# Altium footprint library Semiconductors.PcbLib: 4 footprints
Each footprint in its own frame and in the unit in brackets; x right, y up, seen from the top. Pads: shape width x height; smd on the part's side, far side on the other; paste and mask are expansions set on the pad; w line width, h text height; cw(c..) or ccw(c..) is an arc to the next point about the centre after c.
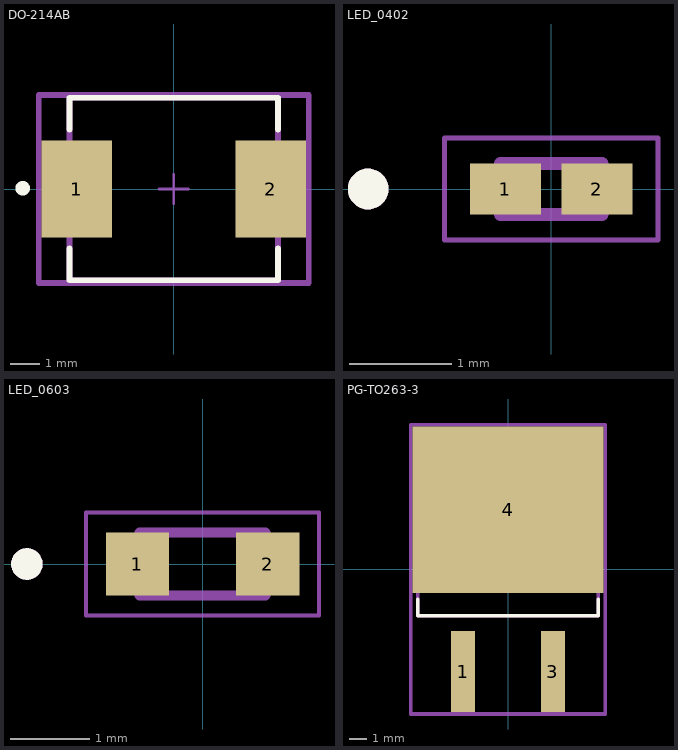
[diagram p0: the footprints below, top view; thin cyan lines are the x and y axes]

## DO-214AB [mm] "DO-214AB / SMC"
pads (2):
  rect 2.4x3.3 smd paste+0 mask+0: 1(-3.3,0) 2(3.3,0)
Top Overlay:
  circle w0.25: c-5.15,0.025 r0.125
  lines w0.2: -3.555,-2.025 -3.555,-3.11 3.555,-3.11 3.555,-2.025 ; -3.555,2.025 -3.555,3.11 3.555,3.11 3.555,2.025
Top 3D Body:
  lines w0.2: -3.555,-3.11 -3.555,3.11 3.555,3.11 3.555,-3.11 -3.555,-3.11
Top Courtyard:
  lines w0.2: -4.6,-3.21 -4.6,3.21 4.6,3.21 4.6,-3.21 -4.6,-3.21
Top Assembly:
  lines w0.2: -4.6,-3.21 -4.6,3.21 4.6,3.21 4.6,-3.21 -4.6,-3.21
  text ".Designator" at 0,0.188 h1
Top Component Center:
  lines w0.1: -0.5,0 0.5,0 ; 0,-0.5 0,0.5
3D body "Diode_Littelfuse_Inc_5_0SMDJ28A_eec.STEP": height 0.25, standoff 0, extent -4.6,-3.21 4.6,3.21

## LED_0402 [mm]
height 0.25
pads (2):
  rect 0.7x0.5 smd mask+0.05: 1(-0.45,0) 2(0.45,0)
Top Overlay:
  circle w0.2: c-1.8,0 r0.1
Mechanical 13:
  circle w0.2: c-1.8,0 r0.1
  lines w0.127: -0.5,-0.25 0.5,-0.25 0.5,0.25 -0.5,0.25 -0.5,-0.25
Mechanical 15:
  lines w0.05: -1.05,-0.5 -1.05,0.5 1.05,0.5 1.05,-0.5 -1.05,-0.5
3D body "step_temp.STEP": height 0.5, standoff 0, extent -0.5,-0.25 0.5,0.25

## LED_0603 [mm]
height 0.75
pads (2):
  rect 0.8x0.8 smd: 1(-0.825,0) 2(0.825,0)
Top Overlay:
  circle w0.2: c-2.225,0 r0.1
Mechanical 13:
  circle w0.2: c-2.225,0 r0.1
  lines w0.127: -0.8,-0.4 -0.8,0.4 0.8,0.4 0.8,-0.4 -0.8,-0.4
Mechanical 15:
  lines w0.05: -1.475,-0.65 1.475,-0.65 1.475,0.65 -1.475,0.65 -1.475,-0.65
3D body "step_temp.STEP": height 0.75, standoff 0, extent -0.8,-0.4 0.8,0.4

## PG-TO263-3 [mm] "PG-TO263-3"
pads (3):
  rect 1.35x4.6 smd paste-1000 mask+0: 1(-2.54,-5.775) 3(2.54,-5.775)
  rect 10.8x9.4 smd paste-1000 mask+0: 4(0,3.375)
Top Overlay:
  lines w0.2: -5.1,-1.7 -5.1,-2.625 5.1,-2.625 5.1,-1.7
Top Paste:
  rectangle: -5.35,-1.275 -0.15,3.225
  rectangle: 0.15,-1.275 5.35,3.225
  rectangle: 0.15,3.525 5.35,8.025
  rectangle: -5.35,3.525 -0.15,8.025
  rectangle: 1.915,-8.025 3.165,-3.525
  rectangle: -3.165,-8.025 -1.915,-3.525
Top 3D Body:
  lines w0.2: -5.1,-2.625 -5.1,6.625 5.1,6.625 5.1,-2.625 -5.1,-2.625
Top Courtyard:
  lines w0.2: -5.5,-8.175 -5.5,8.175 5.5,8.175 5.5,-8.175 -5.5,-8.175
Top Assembly:
  lines w0.2: -5.5,-8.175 -5.5,8.175 5.5,8.175 5.5,-8.175 -5.5,-8.175
  text ".Designator" at 0,-0.001 h1
Top Component Center:
  lines w0.1: -0.5,0 0.5,0 ; 0,-0.5 0,0.5
3D body "Trans_Infineon_IPB020N10N5LFATMA1_eec.STEP": height 0.25, standoff 0, extent -5.5,-8.175 5.5,8.175